# Altium schematic symbol library 08B0-1X1T-03-F.SchLib: 1 symbol
Pins are listed as number, name and electrical type; pins without a type are passive.

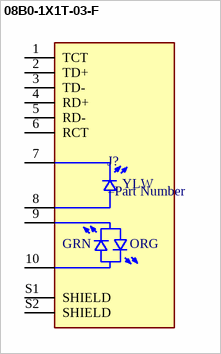
[diagram p0: symbol 08B0-1X1T-03-F]

## 08B0-1X1T-03-F
designator J?
=Description
pins: 1 TCT, 2 TD+, 3 TD-, 4 RD+, 5 RD-, 6 RCT, 7, 8, 9, 10, S1 SHIELD, S2 SHIELD
text: YLW; GRN; ORG